# EAGLE library part MCP4726 (library jasons_stuff)
I2C DAC 12BIT
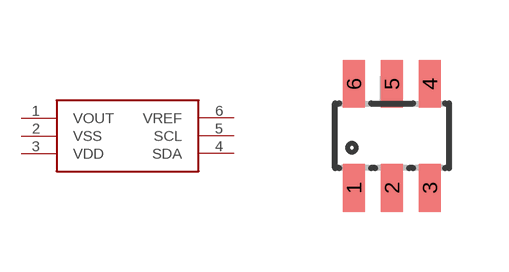
[diagram p52: symbol with the pads of SOT23-6; footprint SOT23-6]

Designator prefix -

## MCP4726  [SOT23-6]
1  VOUT  out
2  VSS  pwr
3  VDD  pwr
4  SDA
5  SCL
6  VREF  in

## Footprint SOT23-6 (pad centres in mm)
smd 0.55 x 1.2: 1 -0.95,-1.3; 2 0,-1.3; 3 0.95,-1.3; 4 0.95,1.3; 5 0,1.3; 6 -0.95,1.3